# Altium integrated library Agilent LED Display 7-Segment, 3-Digit.IntLib: 3 symbols
Pins are listed as number, name and electrical type; pins without a type are passive.

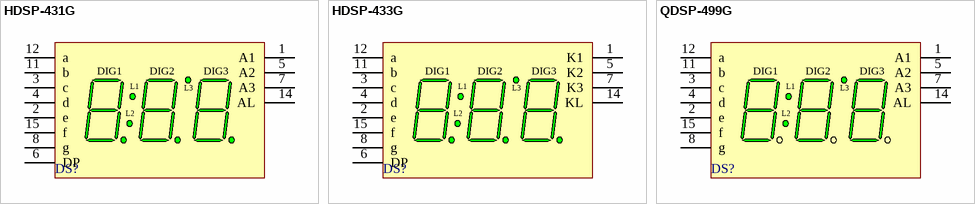
[diagram p0: symbols HDSP-431G to QDSP-499G]

## HDSP-431G
designator DS?
10 mm Gray Surface 7-Segment Display: 3-Digit with 2-Colons, CA, Slim Font, Untinted-Diffused; LuminousIntensity: 3200 ucd (Minimum).; LED_Colour: Green; Note: No pins are present in positions 9, 10 and 13.; Published: 26-May-2004; LatestRevisionDate: 11-Oct-2004; LatestRevisionNote: Display outline superimposed on PCB Footprint.; DatasheetDocument: 20-Nov-2001; PackageDocument: 20-Nov-2001; PackageReference: HDSP-4; Publisher: Altium Limited; ComponentLink1Description: Manufacturer Link; ComponentLink1URL: http://www.agilent.com/; ComponentLink2Description: Datasheet; ComponentLink2URL: http://cp.literature.agilent.com/litweb/pdf/5988-4824EN.pdf
footprint HDSP-4 (LED, 7-Segment Display, 10 mm, Three Digit; 15 Leads (3 Absent); Row Space 10.16 mm; Pitch 2.54 mm)
simulation model HDSP_431G (SUBCKT)
pins: 1 A1 "Common Anode1", 2 e "Digits (1-3) e Cathode", 3 c "Digits (1-3) c Cathode", 4 d "Digits (1-3) d Cathode", 5 A2 "Common Anode2", 6 DP "DP Cathode", 7 A3 "Common Anode3", 8 g "Digits (1-3) g Cathode", 11 b "Digits (1-3) b Cathode", 12 a "Digits (1-3) a Cathode", 14 AL "L1, L2 & L3 Common Anode", 15 f "Digits (1-3) f Cathode"
text: DIG1; DIG2; DIG3; L1; L3; L2

## HDSP-433G
designator DS?
10 mm Gray Surface 7-Segment Display: 3-Digit with 2-Colons, CC, Slim Font, Untinted-Diffused; LuminousIntensity: 3200 ucd (Minimum).; LED_Colour: Green; Note: No pins are present in positions 9, 10 and 13.; Published: 26-May-2004; LatestRevisionDate: 11-Oct-2004; LatestRevisionNote: Display outline superimposed on PCB Footprint.; DatasheetDocument: 20-Nov-2001; PackageDocument: 20-Nov-2001; PackageReference: HDSP-4; Publisher: Altium Limited; ComponentLink1Description: Manufacturer Link; ComponentLink1URL: http://www.agilent.com/; ComponentLink2Description: Datasheet; ComponentLink2URL: http://cp.literature.agilent.com/litweb/pdf/5988-4824EN.pdf
footprint HDSP-4 (LED, 7-Segment Display, 10 mm, Three Digit; 15 Leads (3 Absent); Row Space 10.16 mm; Pitch 2.54 mm)
simulation model HDSP_433G (SUBCKT)
pins: 1 K1 "Common Cathode1", 2 e "Digits (1-3) e Anode", 3 c "Digits (1-3) c Anode", 4 d "Digits (1-3) d Anode", 5 K2 "Common Cathode2", 6 DP "DP Anode", 7 K3 "Common Cathode3", 8 g "Digits (1-3) g Anode", 11 b "Digits (1-3) b Anode", 12 a "Digits (1-3) a Anode", 14 KL "L1, L2 & L3 Common Cathode", 15 f "Digits (1-3) f Anode"
text: DIG1; DIG2; DIG3; L1; L3; L2

## QDSP-499G
designator DS?
10 mm Gray Surface 7-Segment Display: 3-Digit with 2-Colons, CA, Slim Font, Untinted-Diffused without Pin 6 and No DP; LuminousIntensity: 3200 ucd (Minimum).; LED_Colour: Green; Note: No pins are present in positions 6, 9, 10 and 13.; Published: 26-May-2004; LatestRevisionDate: 11-Oct-2004; LatestRevisionNote: Display outline superimposed on PCB Footprint.; DatasheetDocument: 20-Nov-2001; PackageDocument: 20-Nov-2001; PackageReference: QDSP-4; Publisher: Altium Limited; ComponentLink1Description: Manufacturer Link; ComponentLink1URL: http://www.agilent.com/; ComponentLink2Description: Datasheet; ComponentLink2URL: http://cp.literature.agilent.com/litweb/pdf/5988-4824EN.pdf
footprint QDSP-4 (LED, 7-Segment Display, 10 mm, Three Digit; 15 Leads (4 Absent); Row Space 10.16 mm; Pitch 2.54 mm)
simulation model QDSP_499G (SUBCKT)
pins: 1 A1 "Common Anode1", 2 e "Digits (1-3) e Cathode", 3 c "Digits (1-3) c Cathode", 4 d "Digits (1-3) d Cathode", 5 A2 "Common Anode2", 7 A3 "Common Anode3", 8 g "Digits (1-3) g Cathode", 11 b "Digits (1-3) b Cathode", 12 a "Digits (1-3) a Cathode", 14 AL "L1, L2 & L3 Common Anode", 15 f "Digits (1-3) f Cathode"
text: DIG1; DIG2; DIG3; L1; L3; L2